# Altium footprint library EthernetTransformers.PcbLib: 4 footprints
Each footprint in its own frame and in the unit in brackets; x right, y up, seen from the top. Pads: shape width x height; smd on the part's side, far side on the other; paste and mask are expansions set on the pad; w line width, h text height; cw(c..) or ccw(c..) is an arc to the next point about the centre after c.
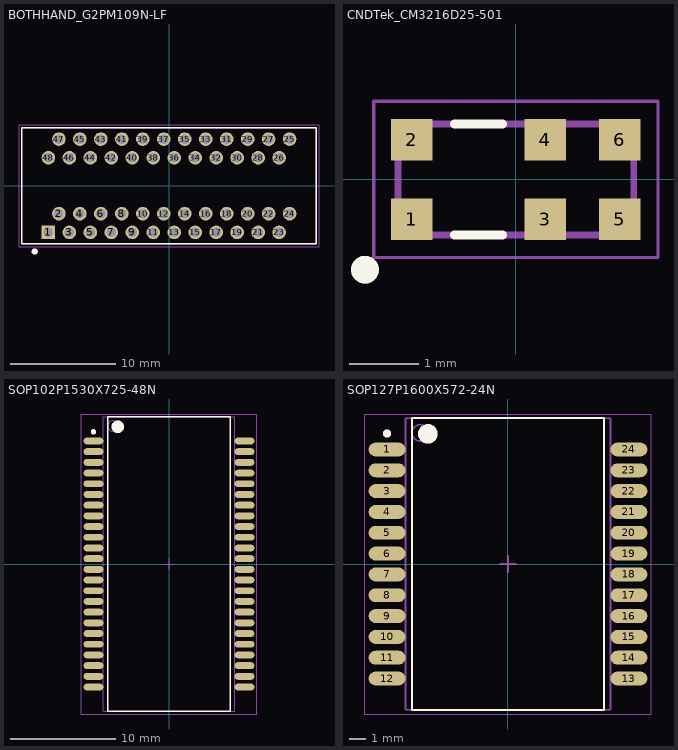
[diagram p0: the footprints below, top view; thin cyan lines are the x and y axes]

## BOTHHAND_G2PM109N-LF [mm] "1000 BASE-T DUAL PORT MAGNETICS MODULES"
pads (48):
  rect 1.3x1.3 hole 0.9: 1(-11.5,-4.445)
  round 1.3 hole 0.9: 2(-10.5,-2.665) 3(-9.5,-4.445) 4(-8.5,-2.665) 5(-7.5,-4.445) 6(-6.5,-2.665) 7(-5.5,-4.445) 8(-4.5,-2.665) 9(-3.5,-4.445) 10(-2.5,-2.665) 11(-1.5,-4.445) 12(-0.5,-2.665) 13(0.5,-4.445) 14(1.5,-2.665) 15(2.5,-4.445) 16(3.5,-2.665) 17(4.5,-4.445) 18(5.5,-2.665) 19(6.5,-4.445) 20(7.5,-2.665) 21(8.5,-4.445) 22(9.5,-2.665) 23(10.5,-4.445) 24(11.5,-2.665) 25(11.5,4.445) 26(10.5,2.665) 27(9.5,4.445) 28(8.5,2.665) 29(7.5,4.445) 30(6.5,2.665) 31(5.5,4.445) 32(4.5,2.665) 33(3.5,4.445) 34(2.5,2.665) 35(1.5,4.445) 36(0.5,2.665) 37(-0.5,4.445) 38(-1.5,2.665) 39(-2.5,4.445) 40(-3.5,2.665) 41(-4.5,4.445) 42(-5.5,2.665) 43(-6.5,4.445) 44(-7.5,2.665) 45(-8.5,4.445) 46(-9.5,2.665) 47(-10.5,4.445) 48(-11.5,2.665)
Top Overlay:
  circle w0.3: c-12.8,-6.275 r0.15
  lines w0.127: -14.05,-5.55 -14.05,5.55 14.05,5.55 14.05,-5.55 -14.05,-5.55
Mechanical 1:
  lines w0.1: -14.05,-5.55 -14.05,5.55 14.05,5.55 14.05,-5.55 -14.05,-5.55
Mechanical 15:
  lines w0.05: -14.3,-5.8 -14.3,5.8 14.3,5.8 14.3,-5.8 -14.3,-5.8
3D body: height 11, standoff 0.3, extent -14.05,-5.55 14.05,5.55

## CNDTek_CM3216D25-501 [mm]
pads (6):
  rect 0.6x0.6 smd: 1(-1.5,-0.575) 2(-1.5,0.575) 3(0.425,-0.575) 4(0.425,0.575) 5(1.5,-0.575) 6(1.5,0.575)
Top Overlay:
  circle w0.2: c-2.175,-1.3 r0.1
  lines w0.127: -0.885,-0.8 -0.19,-0.8 ; -0.885,0.8 -0.19,0.8
Mechanical 1:
  circle w0.2: c-2.175,-1.3 r0.1
  lines w0.1: -1.7,-0.8 1.7,-0.8 1.7,0.8 -1.7,0.8 -1.7,-0.8
Mechanical 15:
  lines w0.05: -2.05,-1.125 2.05,-1.125 2.05,1.125 -2.05,1.125 -2.05,-1.125
3D body: height 2.4, standoff 0, extent -1.7,-0.8 1.7,0.8

## SOP102P1530X725-48N [mm] "SOP, 48-Leads, Body 27,80x12,25mm, Pitch 1,02mm, IPC Medium Density"
height 7.25
pads (48):
  oval 1.9x0.65 smd: 1(-7.2,11.73) 2(-7.2,10.71) 3(-7.2,9.69) 4(-7.2,8.67) 5(-7.2,7.65) 6(-7.2,6.63) 7(-7.2,5.61) 8(-7.2,4.59) 9(-7.2,3.57) 10(-7.2,2.55) 11(-7.2,1.53) 12(-7.2,0.51) 13(-7.2,-0.51) 14(-7.2,-1.53) 15(-7.2,-2.55) 16(-7.2,-3.57) 17(-7.2,-4.59) 18(-7.2,-5.61) 19(-7.2,-6.63) 20(-7.2,-7.65) 21(-7.2,-8.67) 22(-7.2,-9.69) 23(-7.2,-10.71) 24(-7.2,-11.73) 25(7.2,-11.73) 26(7.2,-10.71) 27(7.2,-9.69) 28(7.2,-8.67) 29(7.2,-7.65) 30(7.2,-6.63) 31(7.2,-5.61) 32(7.2,-4.59) 33(7.2,-3.57) 34(7.2,-2.55) 35(7.2,-1.53) 36(7.2,-0.51) 37(7.2,0.51) 38(7.2,1.53) 39(7.2,2.55) 40(7.2,3.57) 41(7.2,4.59) 42(7.2,5.61) 43(7.2,6.63) 44(7.2,7.65) 45(7.2,8.67) 46(7.2,9.69) 47(7.2,10.71) 48(7.2,11.73)
Top Overlay:
  circle w0.25: c-7.2,12.605 r0.125
  circle w0.6: c-4.887,13.086 r0.3
  lines w0.127: -5.85,-14.05 -5.85,14.05 5.85,14.05 5.85,-14.05 -5.85,-14.05
Mechanical 13:
  circle w0.1: c-5.35,13.15 r0.5
  lines w0.1: -6.25,-14.05 -6.25,14.05 6.25,14.05 6.25,-14.05 -6.25,-14.05
Mechanical 15:
  lines w0.05: -8.375,-14.3 -8.375,14.3 8.375,14.3 8.375,-14.3 -8.375,-14.3
  lines w0.1: -0.5,0 0.5,0 ; 0,-0.5 0,0.5
3D body "SOP102P1530X725-48N.step": height 7.25, standoff 0, extent -7.65,-14.05 7.65,14.05

## SOP127P1600X572-24N [mm] "SOP, 24-Leads, Body 17,53x12,20mm, Pitch 1,27mm, IPC Medium Density"
height 5.72
pads (24):
  oval 2.25x0.85 smd: 1(-7.375,6.985) 2(-7.375,5.715) 3(-7.375,4.445) 4(-7.375,3.175) 5(-7.375,1.905) 6(-7.375,0.635) 7(-7.375,-0.635) 8(-7.375,-1.905) 9(-7.375,-3.175) 10(-7.375,-4.445) 11(-7.375,-5.715) 12(-7.375,-6.985) 13(7.375,-6.985) 14(7.375,-5.715) 15(7.375,-4.445) 16(7.375,-3.175) 17(7.375,-1.905) 18(7.375,-0.635) 19(7.375,0.635) 20(7.375,1.905) 21(7.375,3.175) 22(7.375,4.445) 23(7.375,5.715) 24(7.375,6.985)
Top Overlay:
  circle w0.6: c-4.887,7.936 r0.3
  circle w0.25: c-7.375,7.96 r0.125
  lines w0.127: -5.85,-8.9 5.85,-8.9 5.85,8.9 -5.85,8.9 -5.85,-8.9
Mechanical 13:
  circle w0.1: c-5.35,8 r0.5
  lines w0.1: -6.25,-8.9 6.25,-8.9 6.25,8.9 -6.25,8.9 -6.25,-8.9
Mechanical 15:
  lines w0.05: -8.725,-9.15 8.725,-9.15 8.725,9.15 -8.725,9.15 -8.725,-9.15
  lines w0.1: -0.5,0 0.5,0 ; 0,-0.5 0,0.5
3D body "SOP127P1600X572-24N-1.step": height 5.72, standoff 0, extent -8,-8.9 8,8.9